# EAGLE library part ADUM5000 (library yantronix)
2.5 kV, Isolated DC-to-DC Converter
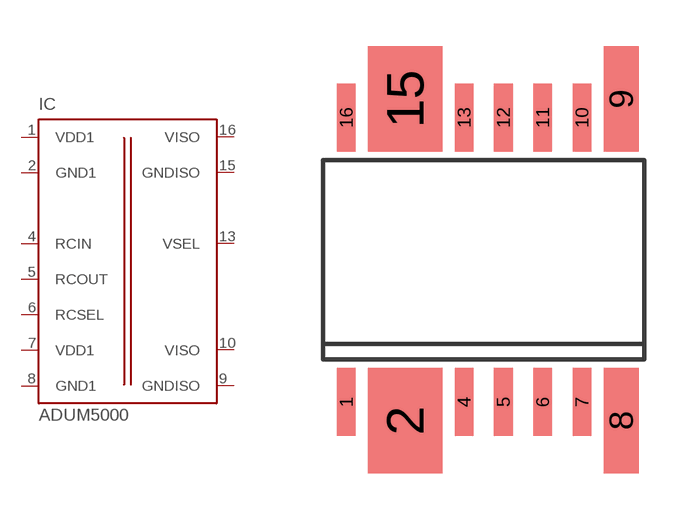
[diagram p13: symbol with the pads of RW-16; footprint RW-16]

Designator prefix IC

## ADUM5000  [RW-16]
1  VDD1  pwr
2  GND1  pwr
4  RCIN  in
5  RCOUT  out
6  RCSEL  in
7  VDD1  pwr
8  GND1  pwr
9  GNDISO  pwr
10  VISO  pwr
13  VSEL  in
15  GNDISO  pwr
16  VISO  pwr

## Footprint RW-16 (pad centres in mm)
16-Lead (Wide Body) Small Outline Package (RW-16)
smd 0.6 x 2.2: 1 -4.445,-4.6; 4 -0.635,-4.6; 5 0.635,-4.6; 6 1.905,-4.6; 7 3.175,-4.6; 10 3.175,4.6; 11 1.905,4.6; 12 0.635,4.6; 13 -0.635,4.6; 16 -4.445,4.6
smd 2.4 x 3.4: 2 -2.54,-5.2; 15 -2.54,5.2
smd 1.13 x 3.4: 8 4.445,-5.2; 9 4.445,5.2